# Altium footprint library CONN_OPTIC.PcbLib: 1 footprints
Each footprint in its own frame and in the unit in brackets; x right, y up, seen from the top. Pads: shape width x height; smd on the part's side, far side on the other; paste and mask are expansions set on the pad; w line width, h text height; cw(c..) or ccw(c..) is an arc to the next point about the centre after c.
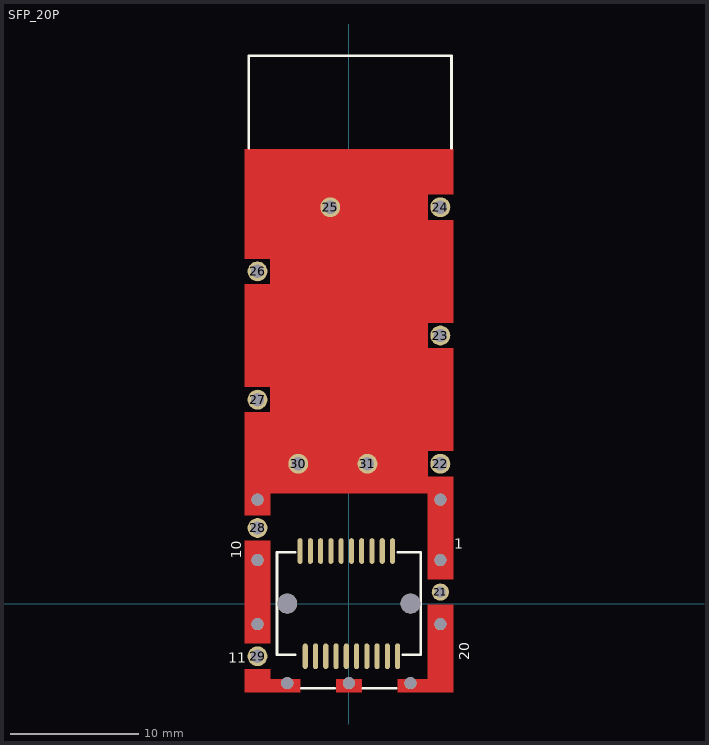
[diagram p0: the footprint, top view; thin cyan lines are the x and y axes]

## SFP_20P [mil] "SFP Conn, MOLEX, 74441-0010, 74737-0010"
pads (42):
  oval 15.75x78.74 smd mask+3.94: 1(133.8,161.45) 2(102.31,161.45) 3(70.81,161.45) 4(39.32,161.45) 5(7.82,161.45) 6(-23.68,161.45) 7(-55.17,161.45) 8(-86.67,161.45) 9(-118.16,161.45) 10(-149.66,161.45) 11(-133.86,-161.45) 12(-102.37,-161.45) 13(-70.87,-161.45) 14(-39.37,-161.45) 15(-7.88,-161.45) 16(23.62,-161.45) 17(55.12,-161.45) 18(86.61,-161.45) 19(118.11,-161.45) 20(149.6,-161.45)
  round 53 hole 33: 21(280.7,35.45)
  round 61 hole 41: 22(280.7,429.15) 23(280.7,822.85) 24(280.7,1216.55) 25(-57.1,1216.55) 26(-280.3,1019.65) 27(-280.3,625.95) 28(-280.3,232.25) 29(-280.3,-161.45) 30(-155.5,429.15) 31(57.1,429.15)
  round 37 hole 37: " "(-280.3,-62.95) " "(-280.3,133.85) " "(-280.3,318.95) " "(-189,-244.05) " "(0,-244.05) " "(189,-244.05) " "(280.7,-62.95) " "(280.7,133.85) " "(280.7,318.95)
  round 61 hole 61: " "(-189,0.05) " "(189,0.05)
Top Layer:
  region: -319.7,192.95 -319.7,-122.05 -241,-122.05 -241,192.95
  region: -319.7,-200.75 -319.7,-271.65 -149.2,-271.65 -149.2,-232.25 -241,-232.25 -241,-200.75
  region: 320.1,-271.65 320.1,-3.95 241.3,-3.95 241.3,-232.25 149.6,-232.25 149.6,-271.65
  region: 320.1,74.85 241.3,74.85 241.3,338.55 -241,338.55 -241,271.65 -319.7,271.65 -319.7,586.65 -241,586.65 -241,665.35 -319.7,665.35 -319.7,980.35 -241,980.35 -241,1059.05 -319.7,1059.05 -319.7,1393.75 320.1,1393.75 320.1,1255.95 241.3,1255.95 241.3,1177.15 320.1,1177.15 320.1,862.25 241.3,862.25 241.3,783.45 320.1,783.45 320.1,468.55 241.3,468.55 241.3,389.75 320.1,389.75
  region: -39.4,-232.25 -39.4,-271.65 39.4,-271.65 39.4,-232.25
Top Overlay:
  lines w7.87: -307.09,1397.64 -307.09,1681.1 314.96,1681.1 314.96,1397.64 ; -165.35,-157.45 -220.47,-157.45 -220.47,157.45 -165.35,157.45 ; -145.67,-259.84 -43.31,-259.84 ; 43.31,-259.84 145.67,-259.84 ; 149.61,157.45 220.47,157.45 220.47,-157.45 165.35,-157.45
  text "1" at 323.91,167.83 h31.5
  text "20" at 370.08,-173.23 h31.5
  text "10" at -330.71,137.8 h31.5
  text "11" at -370.08,-181.1 h31.5
Bottom Overlay:
  text "10" at -44.71,207.83 h35
3D body "744410010.stp": height 211.42, standoff -35.43, extent -216.16,-180.7 216.91,179.54
3D body "747370010.stp": height 410.39, standoff -126.92, extent -303.84,-255.9 311.72,1673.03